# Altium schematic symbol library Schlib1.SchLib: 3 symbols
Pins are listed as number, name and electrical type; pins without a type are passive.

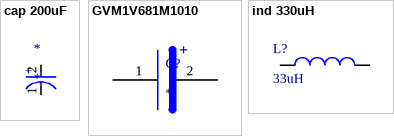
[diagram p0: symbols cap 200uF to ind 330uH]

## cap 200uF
designator *
Supplier 1: LCSC; Supplier Part Number 1: C4747975
footprint CAPAE7262X77M (Aluminum Electrolytic Capacitor, Body 6,60x6,20x7,70mm, IPC Low Density)
pins: 1 C, 2 A
text: +

## GVM1V681M1010
designator C?
footprint CAP10MM
pins: 1, 2
text: +

## ind 330uH
designator L?, comment 33uH
Supplier 1: LCSC; Supplier Part Number 1: C19268660
footprint INDM140130X52N (Molded Inductor, 2-Leads, Body 13,95x12,95mm, IPC Medium Density)
pins: 1, 2